# Altium integrated library Components - 11.11.25 - 11.58.IntLib: 1 symbol
Pins are listed as number, name and electrical type; pins without a type are passive.

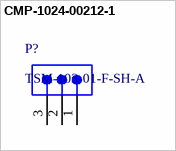
[diagram p0: symbol CMP-1024-00212-1]

## CMP-1024-00212-1
designator P?, comment TSM-103-01-F-SH-A
0.025" SQ Post Header, Surface Mount, Horizontal, -55 to 125 degC, 2.54 mm Pitch, 3-Pin, Male, RoHS; Manufacturer: Samtec; Pitch: 2.54 mm; ComponentLink1Description: Manufacturer URL; Temperature Range: -55 to 125 degC; PartNumber: TSM-103-01-F-SH-A; Orientation: Horizontal; ComponentLink1URL: http://www.samtec.com; PackageReference: TSM-103-01-X-SH-A; PackageDescription: Terminal Strip Single Surface Mount; DatasheetVersion: F-214; ComponentLink2Description: Datasheet; Mounting Technology: Surface Mount; PackageVersion: CD, 7/1991; RoHS: True; ComponentLink3URL: http://www.samtec.com/documents/webfiles/cpdf/TSM-1XX-XX-XXX-SH-XX-XXX-XX-MKT1.pdf; ComponentLink3Description: Package Specification; ComponentLink2URL: http://www.samtec.com/documents/webfiles/pdf/TSM.PDF
footprint SMTC-TSM-103-01-X-SH-A (Terminal Strip Single Surface Mount, 1x3 Pins, Horizontal, 2.54mm Pitch, Male)
pins: 1, 2, 3